# EAGLE library part TPS63806YFFR (library CM4sch)
Switching Regulator, Current-mode, 2.5A, 3100kHz Switching Freq-Max, PBGA15
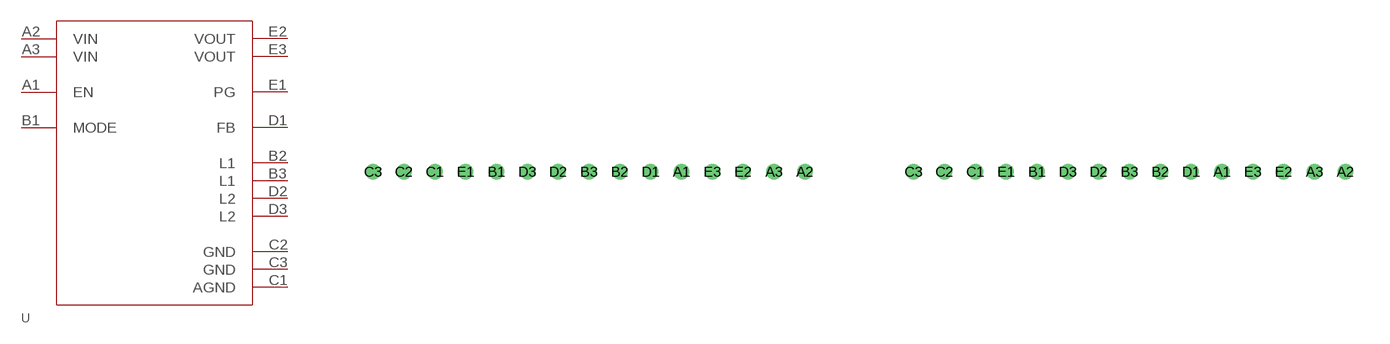
[diagram p1: symbol with the pads of TPS63806YFFR_FP-YFF0015-MFG; footprints TPS63806YFFR_FP-YFF0015-MFG, TPS63806YFFR_FP-YFF0015-IPC_C]

Designator prefix U

## TPS63806YFFRTPS63806YFFR_TPS63806YFFR_FP-YFF0015-MFG (CATEGORY: Voltage Regulators - Switching; DESCRIPTION: Switching Regulator, Current-mode, 2.5A, 3100kHz Switching Freq-Max, PBGA15; MANUFACTURER: Texas Instruments; MANUFACTURER_PART_NUMBER: TPS63806YFFR; ROHS: Yes; STOCK: 11286; SUPPLIER: Mouser; SUPPLIER_PART_NUMBER: 595-TPS63806YFFR)  [TPS63806YFFR_FP-YFF0015-MFG]
A1  EN  in
A2  VIN  pwr
A3  VIN  pwr
B1  MODE  in
B2  L1  pas
B3  L1  pas
C1  AGND  pwr
C2  GND  pwr
C3  GND  pwr
D1  FB  in
D2  L2  pas
D3  L2  pas
E1  PG  oc
E2  VOUT  out
E3  VOUT  out

## TPS63806YFFRTPS63806YFFR_TPS63806YFFR_FP-YFF0015-IPC_C (CATEGORY: Voltage Regulators - Switching; DESCRIPTION: Switching Regulator, Current-mode, 2.5A, 3100kHz Switching Freq-Max, PBGA15; MANUFACTURER: Texas Instruments; MANUFACTURER_PART_NUMBER: TPS63806YFFR; ROHS: Yes; STOCK: 11286; SUPPLIER: Mouser; SUPPLIER_PART_NUMBER: 595-TPS63806YFFR)  [TPS63806YFFR_FP-YFF0015-IPC_C]
Pads as for TPS63806YFFR_FP-YFF0015-MFG

## TPS63806YFFRTPS63806YFFR_TPS63806YFFR_FP-YFF0015-IPC_A (CATEGORY: Voltage Regulators - Switching; DESCRIPTION: Switching Regulator, Current-mode, 2.5A, 3100kHz Switching Freq-Max, PBGA15; MANUFACTURER: Texas Instruments; MANUFACTURER_PART_NUMBER: TPS63806YFFR; ROHS: Yes; STOCK: 11286; SUPPLIER: Mouser; SUPPLIER_PART_NUMBER: 595-TPS63806YFFR)  [TPS63806YFFR_FP-YFF0015-IPC_A]
Pads as for TPS63806YFFR_FP-YFF0015-MFG

## TPS63806YFFRTPS63806YFFR_TPS63806YFFR_FP-YFF0015-IPC_B (CATEGORY: Voltage Regulators - Switching; DESCRIPTION: Switching Regulator, Current-mode, 2.5A, 3100kHz Switching Freq-Max, PBGA15; MANUFACTURER: Texas Instruments; MANUFACTURER_PART_NUMBER: TPS63806YFFR; ROHS: Yes; STOCK: 11286; SUPPLIER: Mouser; SUPPLIER_PART_NUMBER: 595-TPS63806YFFR)  [TPS63806YFFR_FP-YFF0015-IPC_B]
Pads as for TPS63806YFFR_FP-YFF0015-MFG

## Footprint TPS63806YFFR_FP-YFF0015-MFG (pad centres in mm)
drill 0.127 pad 0.254 round: A1 12.7,0; A2 17.78,0; A3 16.51,0; B1 5.08,0; B2 10.16,0; B3 8.89,0; C1 2.54,0; C2 1.27,0; C3 0,0; D1 11.43,0; D2 7.62,0; D3 6.35,0; E1 3.81,0; E2 15.24,0; E3 13.97,0

## Footprint TPS63806YFFR_FP-YFF0015-IPC_C (pad centres in mm)
drill 0.127 pad 0.254 round: A1 12.7,0; A2 17.78,0; A3 16.51,0; B1 5.08,0; B2 10.16,0; B3 8.89,0; C1 2.54,0; C2 1.27,0; C3 0,0; D1 11.43,0; D2 7.62,0; D3 6.35,0; E1 3.81,0; E2 15.24,0; E3 13.97,0

## Footprint TPS63806YFFR_FP-YFF0015-IPC_A (pad centres in mm)
drill 0.127 pad 0.254 round: A1 12.7,0; A2 17.78,0; A3 16.51,0; B1 5.08,0; B2 10.16,0; B3 8.89,0; C1 2.54,0; C2 1.27,0; C3 0,0; D1 11.43,0; D2 7.62,0; D3 6.35,0; E1 3.81,0; E2 15.24,0; E3 13.97,0

## Footprint TPS63806YFFR_FP-YFF0015-IPC_B (pad centres in mm)
drill 0.127 pad 0.254 round: A1 12.7,0; A2 17.78,0; A3 16.51,0; B1 5.08,0; B2 10.16,0; B3 8.89,0; C1 2.54,0; C2 1.27,0; C3 0,0; D1 11.43,0; D2 7.62,0; D3 6.35,0; E1 3.81,0; E2 15.24,0; E3 13.97,0